# EAGLE library part CC3-4805SF-E (library Schuyler)
TDK-Lamda DC-DC Converter. In=48V, Out=5V, Power=3W.
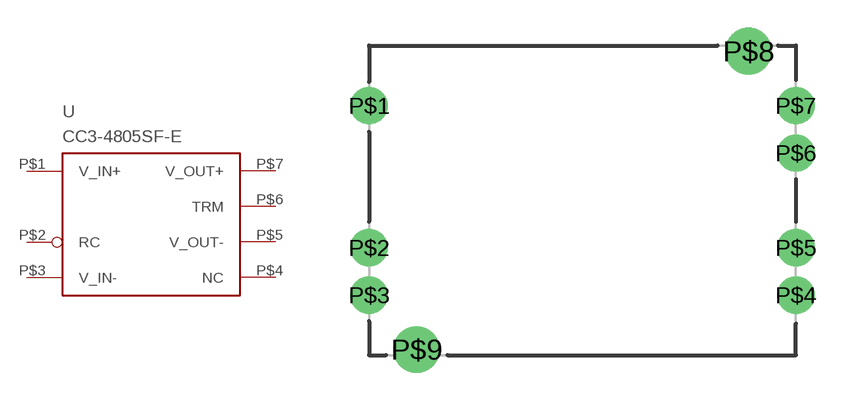
[diagram p2: symbol with the pads of CC3-XXXXXF-E; footprint CC3-XXXXXF-E]

Designator prefix -

## CC3-4805SF-E" (MANPARTNUMBER: CC3-4805SF-E; MANUFACTURER: TDK-Lambda Americas Inc; PARTNUMBER: 445-3276-ND; SUPPLIER: DIGIKEY; VERIFIED: TRUE)  [CC3-XXXXXF-E]
P$1  V_IN+  pwr
P$2  RC
P$3  V_IN-  pwr
P$4  NC  nc
P$5  V_OUT-  pwr
P$6  TRM
P$7  V_OUT+  pwr

## Footprint CC3-XXXXXF-E (pad centres in mm)
TDK-Lambda package for DC-DC converters CC3-xxxxxF-E. http://us.tdk-lambda.com/lp/ftp/specs/CC3-xF-E_spc_en.pdf
drill 1 pad 2: P$1 0,-2.92; P$2 0,-10.54; P$3 0,-13.08; P$4 22.86,-13.08; P$5 22.86,-10.54; P$6 22.86,-5.46; P$7 22.86,-2.92
drill 1.5 pad 2.5: P$8 20.32,0; P$9 2.54,-16